# EAGLE library part LM2576 (library Power > Switching Controllers)
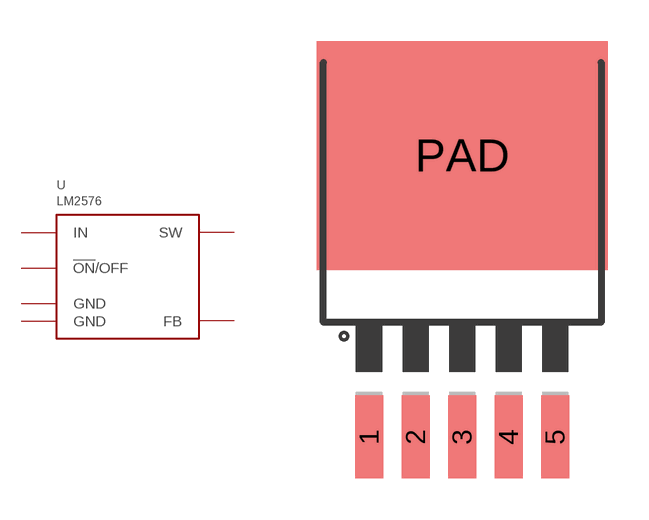
[diagram p0: symbol with the pads of TO263-5; footprint TO263-5]

Designator prefix U

## LM2576  [TO263-5]
1  IN
2  SW
3  GND
4  FB
5  !ON!/OFF
PAD  GND

## Footprint TO263-5 (pad centres in mm)
TO-263
smd 1.016 x 3.05: 1 -3.4,1.525; 2 -1.7,1.525; 3 0,1.525; 4 1.7,1.525; 5 3.4,1.525
smd 10.66 x 8.38: PAD 0,11.83